# Altium schematic symbol library Acoustics.SchLib: 1 symbol
Pins are listed as number, name and electrical type; pins without a type are passive.

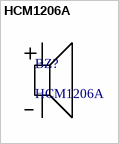
[diagram p0: symbol HCM1206A]

## HCM1206A
designator BZ?
Звукоизлучатель; ValueManufacturer: JL World; ValueManufacturerPartNumber: HCM1206A; ValueType: Звукоизлучатель
footprint HCM1212
pins: 1 +, 2 -